# Altium schematic symbol library RES,3k9,1%,0.1W,0603.Schlib: 1 symbol
Pins are listed as number, name and electrical type; pins without a type are passive.

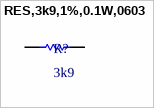
[diagram p0: symbol RES,3k9,1%,0.1W,0603]

## RES,3k9,1%,0.1W,0603
designator R?, comment 3k9
3.9 kOhms ±1% 0.1W, 1/10W Chip Resistor 0603 (1608 Metric) Automotive AEC-Q200 Thick Film
pins: 1, 2